# Altium footprint library Passives.PcbLib: 62 footprints (part 4 of 4)
Each footprint in its own frame and in the unit in brackets; x right, y up, seen from the top. Pads: shape width x height; smd on the part's side, far side on the other; paste and mask are expansions set on the pad; w line width, h text height; cw(c..) or ccw(c..) is an arc to the next point about the centre after c.
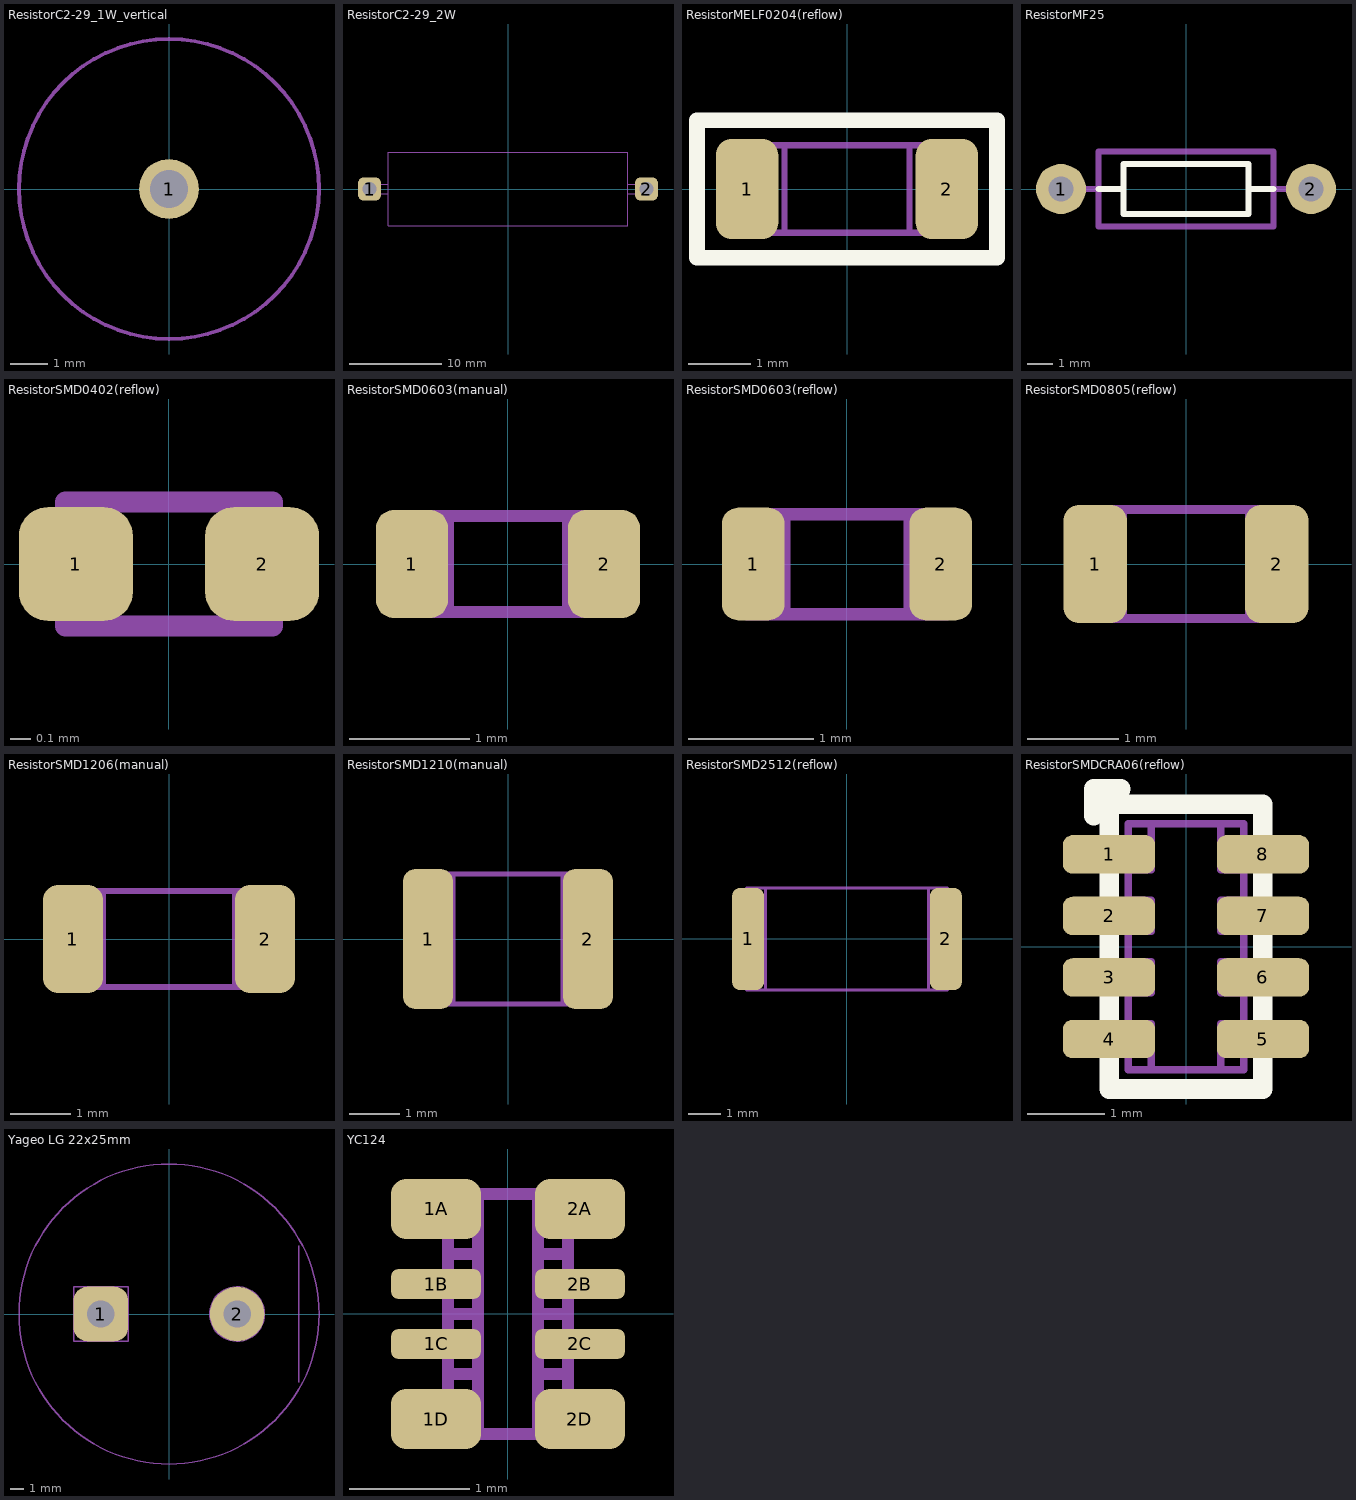
[diagram p3: the footprints below, top view; thin cyan lines are the x and y axes]

## ResistorC2-29_1W_vertical [mm]
pads (1):
  round 1.6 hole 1: 1(0,0)
Mechanical 1:
  circle w0.1: c0,0 r4
Mechanical 13:
  text ".Designator" at -2,-3 h1
3D body: height 26, standoff 0, extent -4,-4 3.968,3.984

## ResistorC2-29_2W [mm]
pads (2):
  rrect50% 2.5x2.5 hole 1.5: 1(-15,0) 2(15,0)
Mechanical 1:
  lines w0.1: -13,-0.5 -16,-0.5 -16,0.5 -13,0.5 ; 13,-0.5 16,-0.5 16,0.5 13,0.5 ; -13,-4 -13,4 13,4 13,-4 -13,-4
Mechanical 13:
  text ".Designator" at -2,-3 h1
3D body: height 7.97, standoff 0, extent -13,-4 13,3.984

## ResistorMELF0204(reflow) [mm]
height 1.4
pads (2):
  rrect50% 1x1.6 smd: 1(-1.6,0) 2(1.6,0)
Top Overlay:
  lines w0.254: -2.4,-1.1 2.4,-1.1 2.4,1.1 -2.4,1.1 -2.4,-1.1
Mechanical 1:
  lines w0.1: -1,-0.7 -1,0.7 ; 1,-0.7 1,0.7 ; -1.8,-0.7 -1.8,0.699 1.8,0.699 1.8,-0.7 -1.8,-0.7
3D body: height 1.39, standoff 0, extent -1.8,-0.698 1.8,0.699

## ResistorMF25 [mm]
pads (2):
  round 2 hole 1: 1(-5,0) 2(5,0)
Top Overlay:
  lines w0.254: -3.5,0 -2.5,0 ; 2.5,0 3.5,0 ; -2.5,-1 -2.5,1 2.5,1 2.5,-1 -2.5,-1
Mechanical 1:
  lines w0.254: -5,0 -3.5,0 ; 3.5,0 5,0 ; -3.5,-1.5 3.5,-1.5 3.5,1.5 -3.5,1.5 -3.5,-1.5
3D body: height 2.99, standoff 0, extent -3.5,-1.5 3.5,1.494

## ResistorSMD0402(reflow) [mm]
height 0.45
pads (2):
  rrect50% 0.55x0.55 smd: 1(-0.45,0) 2(0.45,0)
Mechanical 1:
  lines w0.1: -0.3,-0.3 -0.3,0.3 ; 0.3,-0.3 0.3,0.3 ; -0.5,-0.3 -0.5,0.3 0.5,0.3 0.5,-0.3 -0.5,-0.3
Mechanical 13:
  text ".Designator" at -0.9,-0.3 h1
Mechanical 14:
  text ".Comment" at -0.9,-0.3 h1
3D body: height 0.45, standoff 0, extent -0.5,-0.25 -0.3,0.25
3D body: height 0.45, standoff 0, extent 0.3,-0.25 0.5,0.25
3D body: height 0.45, standoff 0, extent -0.3,-0.25 0.3,0.25

## ResistorSMD0603(manual) [mm]
height 0.45
pads (2):
  rrect50% 0.6x0.9 smd: 1(-0.8,0) 2(0.8,0)
Mechanical 1:
  lines w0.1: -0.5,-0.4 -0.5,0.4 ; 0.5,-0.4 0.5,0.4 ; -0.8,-0.4 0.8,-0.4 0.8,0.4 -0.8,0.4 -0.8,-0.4
Mechanical 13:
  text ".Designator" at -0.9,-0.3 h1
Mechanical 14:
  text ".Comment" at -1.3,-0.3 h1
3D body: height 0.5, standoff 0, extent -0.8,-0.4 0.8,0.4

## ResistorSMD0603(reflow) [mm]
height 0.45
pads (2):
  rrect50% 0.5x0.9 smd: 1(-0.75,0) 2(0.75,0)
Mechanical 1:
  lines w0.1: -0.5,-0.4 -0.5,0.4 ; 0.5,-0.4 0.5,0.4 ; -0.8,-0.4 -0.8,0.4 0.8,0.4 0.8,-0.4 -0.8,-0.4
Mechanical 13:
  text ".Designator" at -0.9,-0.3 h1
Mechanical 14:
  text ".Comment" at -1.2,-0.3 h1
3D body: height 0.5, standoff 0, extent -0.8,-0.4 0.8,0.4

## ResistorSMD0805(reflow) [mm]
height 0.45
pads (2):
  rrect50% 0.7x1.3 smd: 1(-1,0) 2(1,0)
Mechanical 1:
  lines w0.1: -0.7,-0.6 -0.7,0.6 ; 0.7,-0.6 0.7,0.6 ; -1,-0.6 1,-0.6 1,0.6 -1,0.6 -1,-0.6
Mechanical 13:
  text ".Designator" at -1,-0.25 h1
Mechanical 14:
  text ".Comment" at -1.6,-2.5 h1
3D body: height 0.6, standoff 0, extent 0.7,-0.65 1.05,0.65
3D body: height 0.6, standoff 0, extent -1.05,-0.65 -0.7,0.65
3D body: height 0.6, standoff 0, extent -0.7,-0.65 0.7,0.65

## ResistorSMD1206(manual) [mm]
height 0.6
pads (2):
  rrect50% 1x1.8 smd: 1(-1.6,0) 2(1.6,0)
Mechanical 1:
  lines w0.1: -1.1,-0.8 -1.1,0.8 ; 1.1,-0.8 1.1,0.8 ; -1.6,-0.8 1.6,-0.8 1.6,0.8 -1.6,0.8 -1.6,-0.8
Mechanical 13:
  text ".Designator" at -1.6,1.8 h1
Mechanical 14:
  text ".Comment" at -1.7,1.7 h1
3D body: height 0.6, standoff 0, extent -1.6,-0.8 1.6,0.8

## ResistorSMD1210(manual) [mm]
height 0.6
pads (2):
  rrect50% 1x2.8 smd: 1(-1.6,0) 2(1.6,0)
Mechanical 1:
  lines w0.1: -1.1,-1.3 -1.1,1.3 ; 1.1,-1.3 1.1,1.3 ; -1.6,-1.3 1.6,-1.3 1.6,1.3 -1.6,1.3 -1.6,-1.3
Mechanical 13:
  text ".Designator" at -1.6,-2.2 h1
Mechanical 14:
  text ".Comment" at -1.6,-2.2 h1
3D body: height 0.6, standoff 0, extent 1.1,-1.3 1.6,1.3
3D body: height 0.6, standoff 0, extent -1.6,-1.3 -1.1,1.3
3D body: height 0.6, standoff 0, extent -1.1,-1.3 1.1,1.3

## ResistorSMD2512(reflow) [mm]
height 0.6
pads (2):
  rrect50% 1x3.2 smd: 1(-3.1,0) 2(3.1,0)
Mechanical 1:
  lines w0.1: -2.55,-1.6 -2.55,1.6 ; 2.55,-1.6 2.55,1.6 ; -3.15,-1.6 -3.15,1.6 3.15,1.6 3.15,-1.6 -3.15,-1.6
Mechanical 13:
  text ".Designator" at -3.5,-3.6 h1
Mechanical 14:
  text ".Comment" at -3.5,-3.6 h1
3D body: height 0.65, standoff 0, extent -3.15,-1.6 3.15,1.6

## ResistorSMDCRA06(reflow) [mm] "4x resistor array 0.8mm-pitch"
height 0.6
pads (8):
  rrect50% 1.2x0.5 smd: 1(-1,1.2) 2(-1,0.4) 3(-1,-0.4) 4(-1,-1.2) 5(1,-1.2) 6(1,-0.4) 7(1,0.4) 8(1,1.2)
Top Overlay:
  lines w0.254: -1.2,1.7 -1.2,2.05 -0.85,2.05 ; -1,-1.85 -1,1.85 1,1.85 1,-1.85 -1,-1.85
Mechanical 1:
  lines w0.1: -0.75,-1 -0.45,-1 -0.45,-1.6 ; -0.75,-0.6 -0.45,-0.6 -0.45,-0.2 -0.75,-0.2 ; -0.75,0.2 -0.45,0.2 -0.45,0.6 -0.75,0.6 ; -0.75,1 -0.45,1 -0.45,1.6 ; 0.45,-1.6 0.45,-1 0.75,-1 ; 0.45,1.6 0.45,1 0.75,1 ; 0.75,-0.6 0.45,-0.6 0.45,-0.2 0.75,-0.2 ; 0.75,0.2 0.45,0.2 0.45,0.6 0.75,0.6 ; -0.75,-1.6 -0.75,1.6 0.75,1.6 0.75,-1.6 -0.75,-1.6
3D body: height 0.6, standoff 0, extent -0.75,-1.6 0.75,1.6

## Yageo LG 22x25mm [mm]
height 25
pads (2):
  rrect50% 4x4 hole 2: 1(-5,0)
  round 4 hole 2: 2(5,0)
Mechanical 1:
  circle w0.1: c0,0 r11
  lines w0.1: -7,0 -3,0 ; -5,-2 -5,2 ; 3,0 7,0 ; 9.5,-5 9.5,5
Mechanical 4:
  circle w0.1: c5,0 r2
  lines w0.1: -7,-2 -7,2 -3,2 -3,-2 -7,-2
Mechanical 13:
  text ".Designator" at -1.75,1.75 h1
3D body: height 25, standoff 0, extent -10.923,-10.973 10.99,10.983

## YC124 [mm]
height 0.6
pads (8):
  rrect50% 0.75x0.5 smd: 1A(-0.6,0.875) 1D(-0.6,-0.875) 2A(0.6,0.875) 2D(0.6,-0.875)
  rrect50% 0.75x0.25 smd: 1B(-0.6,0.25) 1C(-0.6,-0.25) 2B(0.6,0.25) 2C(0.6,-0.25)
Mechanical 1:
  lines w0.1: -0.5,-0.5 -0.25,-0.5 ; -0.5,0 -0.25,0 ; -0.5,0.5 -0.25,0.5 ; 0.25,-0.5 0.5,-0.5 ; 0.25,0 0.5,0 ; 0.25,0.5 0.5,0.5 ; -0.5,-1 -0.25,-1 -0.25,1 -0.5,1 ; -0.5,-1 -0.5,1 ; -0.5,-1 0.5,-1 ; -0.5,1 0.5,1 ; 0.5,-1 0.25,-1 0.25,1 0.5,1 ; 0.5,-1 0.5,1
Mechanical 13:
  text ".Designator" at 2.3,-0.9 h1
3D body: height 0.45, standoff 0, extent -0.5,-1 0.5,1